# Altium schematic symbol library LCC120.SchLib: 1 symbol
Pins are listed as number, name and electrical type; pins without a type are passive.

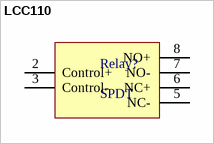
[diagram p0: symbol LCC110]

## LCC110
designator Relay?, comment SPDT
Solid State Relay
footprint LCC110S
pins: 2 Control+, 3 Control-, 5 NC-, 6 NC+, 7 NO-, 8 NO+